# Altium integrated library ON Semi Signal Management Comparators.IntLib: 78 symbols (part 1 of 3)
Pins are listed as number, name and electrical type; pins without a type are passive.

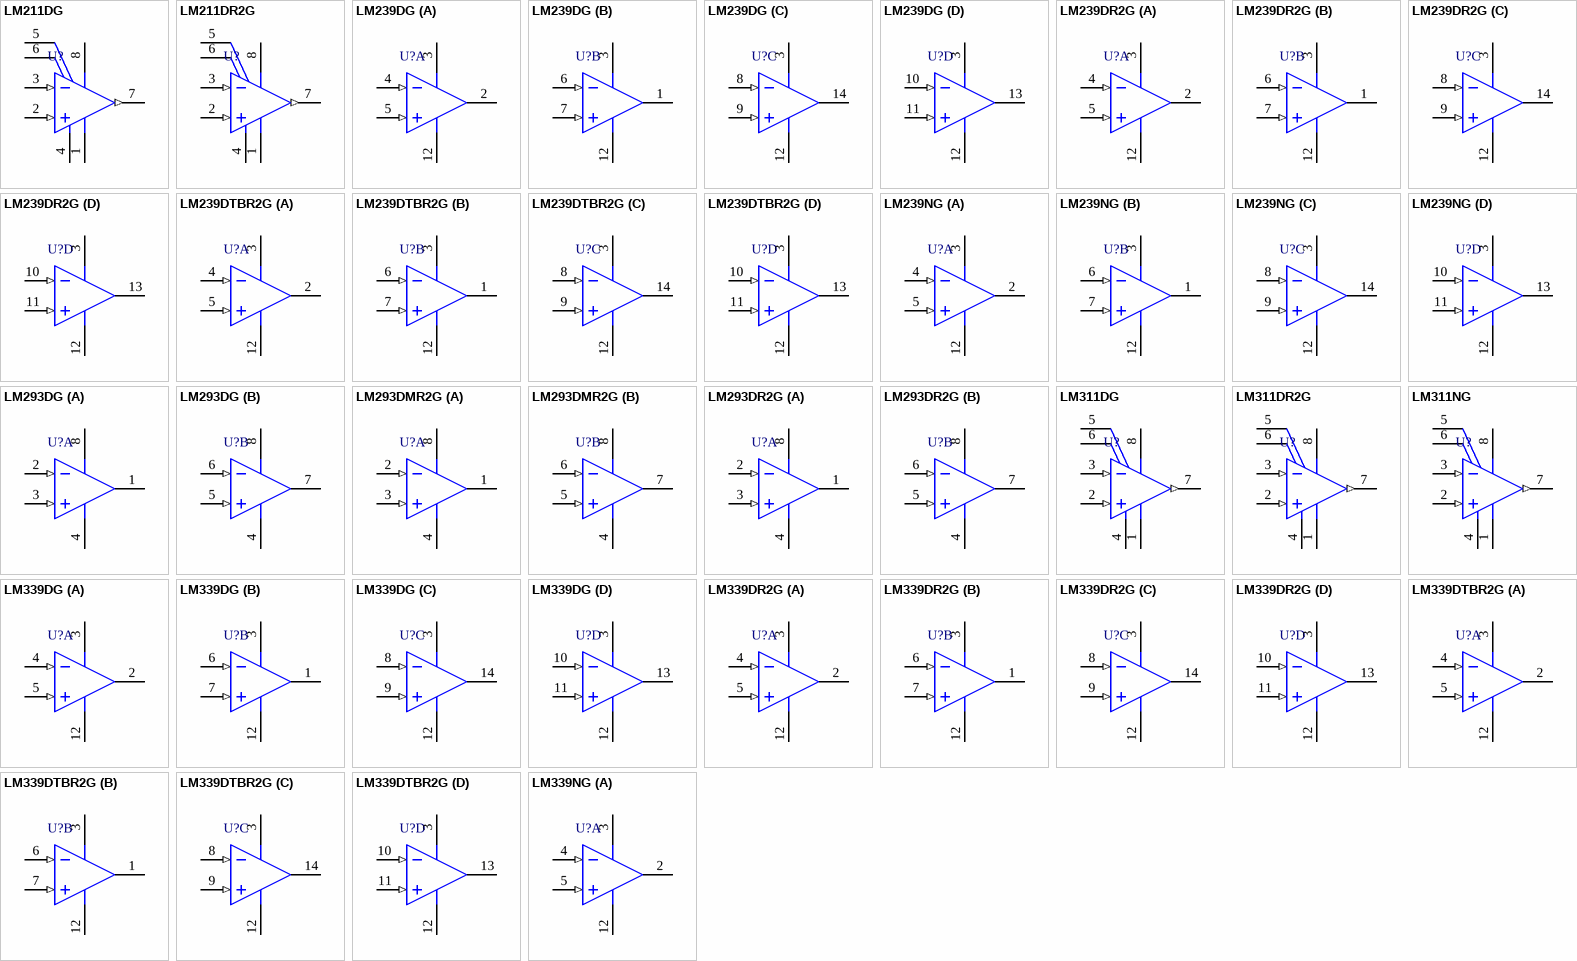
[diagram p0: symbols LM211DG to LM339NG]

## LM211DG
designator U?
Single Comparator, 5 to 30 V, -25 to 85 degC, 8-Pin SOIC, Pb-Free, Tube; Manufacturer: On Semiconductor; PartNumber: LM211DG; ICC Typ (mA): 2.4; VCC Max (V): 30; VCC Min (V): 5; DatasheetVersion: Rev. 6; PackageVersion: Rev. AK, 02/2011; PackageReference: SOIC-8-751-07; PackageDescription: 8-Pin Small Outline Integrated Circuit, Body 4.9 x 3.9 mm, Pitch 1.27 mm; Supplier 1: Digi-Key; Supplier Part Number 1: LM211DGOS-ND; Supplier 2: Farnell; Supplier Part Number 2: 1468702; Supplier 3: Newark; Supplier Part Number 3: 41K9834; Supplier 4: Mouser; Supplier Part Number 4: 863-LM211DG; Packing: Tube; RoHS: TRUE; Mounting Technology: Surface Mount; ComponentLink1Description: Manufacturer URL; ComponentLink1URL: http://www.onsemi.com/; ComponentLink2Description: Datasheet; ComponentLink2URL: http://www.onsemi.com/pub_link/Collateral/LM211-D.PDF; ComponentLink3Description: Package Specification; ComponentLink3URL: http://www.onsemi.com/pub_link/Collateral/751-07.PDF
footprint ONSC-SOIC-8-751-07_V (SOIC, 8-Leads, Body 4.9x3.9mm, Pitch 1.27mm)
pins: 1 GND (power), 2 IN+ (in), 3 IN- (in), 4 VEE (power), 5 BALANCE, 6 BALANCE/STROBE, 7 OUT (out), 8 VCC (power)

## LM211DR2G
designator U?
Single Comparator, 5 to 30 V, -25 to 85 degC, 8-Pin SOIC, Pb-Free, Tape and Reel; Manufacturer: On Semiconductor; PartNumber: LM211DR2G; ICC Typ (mA): 2.4; VCC Max (V): 30; VCC Min (V): 5; DatasheetVersion: Rev. 6; PackageVersion: Rev. AK, 02/2011; PackageReference: SOIC-8-751-07; PackageDescription: 8-Pin Small Outline Integrated Circuit, Body 4.9 x 3.9 mm, Pitch 1.27 mm; Supplier 1: Digi-Key; Supplier Part Number 1: LM211DR2GOSTR-ND; Supplier 2: Digi-Key; Supplier Part Number 2: LM211DR2GOSCT-ND; Supplier 3: Digi-Key; Supplier Part Number 3: LM211DR2GOSDKR-ND; Supplier 4: Newark; Supplier Part Number 4: 45J0709; Supplier 5: Mouser; Supplier Part Number 5: 863-LM211DR2G; Packing: Tape and Reel; RoHS: TRUE; Mounting Technology: Surface Mount; ComponentLink1Description: Manufacturer URL; ComponentLink1URL: http://www.onsemi.com/; ComponentLink2Description: Datasheet; ComponentLink2URL: http://www.onsemi.com/pub_link/Collateral/LM211-D.PDF; ComponentLink3Description: Package Specification; ComponentLink3URL: http://www.onsemi.com/pub_link/Collateral/751-07.PDF
footprint ONSC-SOIC-8-751-07_V (SOIC, 8-Leads, Body 4.9x3.9mm, Pitch 1.27mm)
pins: 1 GND (power), 2 IN+ (in), 3 IN- (in), 4 VEE (power), 5 BALANCE, 6 BALANCE/STROBE, 7 OUT (out), 8 VCC (power)

## LM239DG
designator U?
Single Supply Quad Comparators, -25 to 85 degC, 14-Pin SOIC, Pb-Free, Tube; Manufacturer: On Semiconductor; PartNumber: LM239DG; IO Typ (mA): 16; DatasheetVersion: Rev. 20; PackageVersion: Rev. K, 05/2011; PackageReference: SOIC-14-751A-03; PackageDescription: 14-Pin Small Outline Integrated Circuit, Body 8.65 x 3.9 mm, Pitch 1.27 mm; Supplier 1: Digi-Key; Supplier Part Number 1: LM239DGOS-ND; Supplier 2: Farnell; Supplier Part Number 2: 1211093; Supplier 3: Newark; Supplier Part Number 3: 45J0711; Supplier 4: Mouser; Supplier Part Number 4: 863-LM239DG; Packing: Tube; RoHS: TRUE; Mounting Technology: Surface Mount; ComponentLink1Description: Manufacturer URL; ComponentLink1URL: http://www.onsemi.com/; ComponentLink2Description: Datasheet; ComponentLink2URL: http://www.onsemi.com/pub_link/Collateral/LM339-D.PDF; ComponentLink3Description: Package Specification; ComponentLink3URL: http://www.onsemi.com/pub_link/Collateral/751A-03.PDF
footprint ONSC-SOIC-14-751A-03_V (SOIC, 14-Leads, Body 8.75x4mm, Pitch 1.27mm)
pins on every part: 3 VCC (power), 12 GND (power)
part A pins: 2 OUT1 (oc), 4 IN1- (in), 5 IN1+ (in)
part B pins: 1 OUT2 (oc), 6 IN2- (in), 7 IN2+ (in)
part C pins: 8 IN3- (in), 9 IN3+ (in), 14 OUT3 (oc)
part D pins: 10 IN4- (in), 11 IN4+ (in), 13 OUT4 (oc)

## LM239DR2G
designator U?
Single Supply Quad Comparators, -25 to 85 degC, 14-Pin SOIC, Pb-Free, Tape and Reel; Manufacturer: On Semiconductor; PartNumber: LM239DR2G; IO Typ (mA): 16; DatasheetVersion: Rev. 20; PackageVersion: Rev. K, 05/2011; PackageReference: SOIC-14-751A-03; PackageDescription: 14-Pin Small Outline Integrated Circuit, Body 8.65 x 3.9 mm, Pitch 1.27 mm; Supplier 1: Digi-Key; Supplier Part Number 1: LM239DR2GOSTR-ND; Supplier 2: Digi-Key; Supplier Part Number 2: LM239DR2GOSCT-ND; Supplier 3: Digi-Key; Supplier Part Number 3: LM239DR2GOSDKR-ND; Supplier 4: Farnell; Supplier Part Number 4: 1155778; Supplier 5: Newark; Supplier Part Number 5: 98H0553; Supplier 6: Newark; Supplier Part Number 6: 29X6005; Supplier 7: Mouser; Supplier Part Number 7: 863-LM239DR2G; Packing: Tape and Reel; RoHS: TRUE; Mounting Technology: Surface Mount; ComponentLink1Description: Manufacturer URL; ComponentLink1URL: http://www.onsemi.com/; ComponentLink2Description: Datasheet; ComponentLink2URL: http://www.onsemi.com/pub_link/Collateral/LM339-D.PDF; ComponentLink3Description: Package Specification; ComponentLink3URL: http://www.onsemi.com/pub_link/Collateral/751A-03.PDF
footprint ONSC-SOIC-14-751A-03_V (SOIC, 14-Leads, Body 8.75x4mm, Pitch 1.27mm)
pins on every part: 3 VCC (power), 12 GND (power)
part A pins: 2 OUT1 (oc), 4 IN1- (in), 5 IN1+ (in)
part B pins: 1 OUT2 (oc), 6 IN2- (in), 7 IN2+ (in)
part C pins: 8 IN3- (in), 9 IN3+ (in), 14 OUT3 (oc)
part D pins: 10 IN4- (in), 11 IN4+ (in), 13 OUT4 (oc)

## LM239DTBR2G
designator U?
Single Supply Quad Comparators, -25 to 85 degC, 14-Pin TSSOP, Pb-Free, Tape and Reel; Manufacturer: On Semiconductor; PartNumber: LM239DTBR2G; IO Typ (mA): 16; DatasheetVersion: Rev. 20; PackageVersion: Rev. B, 10/2006; PackageReference: TSSOP-14-948G-01; PackageDescription: 14-Pin Small Outline Package, Body 5 x 4.4 mm, Pitch 0.65 mm; Supplier 1: Digi-Key; Supplier Part Number 1: LM239DTBR2G-ND; Supplier 2: Newark; Supplier Part Number 2: 41K9837; Supplier 3: Mouser; Supplier Part Number 3: 863-LM239DTBR2G; Packing: Tape and Reel; RoHS: TRUE; Mounting Technology: Surface Mount; ComponentLink1Description: Manufacturer URL; ComponentLink1URL: http://www.onsemi.com/; ComponentLink2Description: Datasheet; ComponentLink2URL: http://www.onsemi.com/pub_link/Collateral/LM339-D.PDF; ComponentLink3Description: Package Specification; ComponentLink3URL: http://www.onsemi.com/pub_link/Collateral/948G-01.PDF
footprint ONSC-TSSOP-14-948G-01_V (SOP, 14-Leads, Body 5.1x4.5mm, Pitch 0.65mm)
pins on every part: 3 VCC (power), 12 GND (power)
part A pins: 2 OUT1 (oc), 4 IN1- (in), 5 IN1+ (in)
part B pins: 1 OUT2 (oc), 6 IN2- (in), 7 IN2+ (in)
part C pins: 8 IN3- (in), 9 IN3+ (in), 14 OUT3 (oc)
part D pins: 10 IN4- (in), 11 IN4+ (in), 13 OUT4 (oc)

## LM239NG
designator U?
Single Supply Quad Comparators, -25 to 85 degC, 14-Pin PDIP, Pb-Free, Tube; Manufacturer: On Semiconductor; PartNumber: LM239NG; IO Typ (mA): 16; DatasheetVersion: Rev. 20; PackageVersion: Rev. R, 06/2013; PackageReference: PDIP-14-646-06; PackageDescription: 14-Pin Plastic Dual-In Line Package, Body 19.18 x 6.605 mm, Pitch 2.54 mm; Supplier 1: Digi-Key; Supplier Part Number 1: LM239NGOS-ND; Supplier 2: Farnell; Supplier Part Number 2: 9665420; Supplier 3: Newark; Supplier Part Number 3: 45J0712; Supplier 4: Mouser; Supplier Part Number 4: 863-LM239NG; Packing: Tube; RoHS: TRUE; Mounting Technology: Through Hole; ComponentLink1Description: Manufacturer URL; ComponentLink1URL: http://www.onsemi.com/; ComponentLink2Description: Datasheet; ComponentLink2URL: http://www.onsemi.com/pub_link/Collateral/LM339-D.PDF; ComponentLink3Description: Package Specification; ComponentLink3URL: http://www.onsemi.com/pub_link/Collateral/646-06.PDF
footprint ONSC-PDIP-14-646-06 (DIP, 14-Leads, Body 19.7x7.1mm, Pitch 2.54mm)
pins on every part: 3 VCC (power), 12 GND (power)
part A pins: 2 OUT1 (oc), 4 IN1- (in), 5 IN1+ (in)
part B pins: 1 OUT2 (oc), 6 IN2- (in), 7 IN2+ (in)
part C pins: 8 IN3- (in), 9 IN3+ (in), 14 OUT3 (oc)
part D pins: 10 IN4- (in), 11 IN4+ (in), 13 OUT4 (oc)

## LM293DG
designator U?
Low Offset Voltage Dual Comparators, 2 to 36 V, -25 to 85 degC, 8-Pin SOIC, Pb-Free, Tube; Manufacturer: On Semiconductor; PartNumber: LM293DG; ICC Typ (mA): 0.4; IO Typ (mA): 16; VCC Max (V): 36; VCC Min (V): 2; DatasheetVersion: Rev. 25; PackageVersion: Rev. AK, 02/2011; PackageReference: SOIC-8-751-07; PackageDescription: 8-Pin Small Outline Integrated Circuit, Body 4.9 x 3.9 mm, Pitch 1.27 mm; Supplier 1: Digi-Key; Supplier Part Number 1: LM293DGOS-ND; Supplier 2: Farnell; Supplier Part Number 2: 2318470; Supplier 3: Newark; Supplier Part Number 3: 26K3615; Supplier 4: Mouser; Supplier Part Number 4: 863-LM293DG; Packing: Tube; RoHS: TRUE; Mounting Technology: Surface Mount; ComponentLink1Description: Manufacturer URL; ComponentLink1URL: http://www.onsemi.com/; ComponentLink2Description: Datasheet; ComponentLink2URL: http://www.onsemi.com/pub_link/Collateral/LM393-D.PDF; ComponentLink3Description: Package Specification; ComponentLink3URL: http://www.onsemi.com/pub_link/Collateral/751-07.PDF
footprint ONSC-SOIC-8-751-07_V (SOIC, 8-Leads, Body 4.9x3.9mm, Pitch 1.27mm)
pins on every part: 4 GND (power), 8 VCC (power)
part A pins: 1 OUTA (oc), 2 INA- (in), 3 INA+ (in)
part B pins: 5 INB+ (in), 6 INB- (in), 7 OUTB (oc)

## LM293DMR2G
designator U?
Low Offset Voltage Dual Comparators, 2 to 36 V, -25 to 85 degC, 8-Pin MICRO, Pb-Free, Tape and Reel; Manufacturer: On Semiconductor; PartNumber: LM293DMR2G; ICC Typ (mA): 0.4; IO Typ (mA): 16; VCC Max (V): 36; VCC Min (V): 2; DatasheetVersion: Rev. 25; PackageVersion: Rev. H; PackageReference: MICRO-8-846A-02_H; PackageDescription: 8-Pin Small Outline Package, Body 3 x 3 mm, Pitch 0.65 mm; Supplier 1: Digi-Key; Supplier Part Number 1: LM293DMR2GOSTR-ND; Supplier 2: Digi-Key; Supplier Part Number 2: LM293DMR2GOSCT-ND; Supplier 3: Digi-Key; Supplier Part Number 3: LM293DMR2GOSDKR-ND; Supplier 4: Mouser; Supplier Part Number 4: 863-LM293DMR2G; Packing: Tape and Reel; RoHS: TRUE; Mounting Technology: Surface Mount; ComponentLink1Description: Manufacturer URL; ComponentLink1URL: http://www.onsemi.com/; ComponentLink2Description: Datasheet; ComponentLink2URL: http://www.onsemi.com/pub_link/Collateral/LM393-D.PDF; ComponentLink3Description: Package Specification; ComponentLink3URL: http://www.onsemi.com/pub_link/Collateral/NLSV2T244-D.PDF
footprint ONSC-MICRO-8-846A-02_H_V (SOIC, 8-Leads, Body 3.1x3.1mm, Pitch 0.65mm)
pins on every part: 4 GND (power), 8 VCC (power)
part A pins: 1 OUTA (oc), 2 INA- (in), 3 INA+ (in)
part B pins: 5 INB+ (in), 6 INB- (in), 7 OUTB (oc)

## LM293DR2G
designator U?
Low Offset Voltage Dual Comparators, 2 to 36 V, -25 to 85 degC, 8-Pin SOIC, Pb-Free, Tape and Reel; Manufacturer: On Semiconductor; PartNumber: LM293DR2G; ICC Typ (mA): 0.4; IO Typ (mA): 16; VCC Max (V): 36; VCC Min (V): 2; DatasheetVersion: Rev. 25; PackageVersion: Rev. AK, 02/2011; PackageReference: SOIC-8-751-07; PackageDescription: 8-Pin Small Outline Integrated Circuit, Body 4.9 x 3.9 mm, Pitch 1.27 mm; Supplier 1: Digi-Key; Supplier Part Number 1: LM293DR2GOSTR-ND; Supplier 2: Digi-Key; Supplier Part Number 2: LM293DR2GOSCT-ND; Supplier 3: Digi-Key; Supplier Part Number 3: LM293DR2GOSDKR-ND; Supplier 4: Farnell; Supplier Part Number 4: 1278480; Supplier 5: Newark; Supplier Part Number 5: 84K8730; Supplier 6: Mouser; Supplier Part Number 6: 863-LM293DR2G; Packing: Tape and Reel; RoHS: TRUE; Mounting Technology: Surface Mount; ComponentLink1Description: Manufacturer URL; ComponentLink1URL: http://www.onsemi.com/; ComponentLink2Description: Datasheet; ComponentLink2URL: http://www.onsemi.com/pub_link/Collateral/LM393-D.PDF; ComponentLink3Description: Package Specification; ComponentLink3URL: http://www.onsemi.com/pub_link/Collateral/751-07.PDF
footprint ONSC-SOIC-8-751-07_V (SOIC, 8-Leads, Body 4.9x3.9mm, Pitch 1.27mm)
pins on every part: 4 GND (power), 8 VCC (power)
part A pins: 1 OUTA (oc), 2 INA- (in), 3 INA+ (in)
part B pins: 5 INB+ (in), 6 INB- (in), 7 OUTB (oc)

## LM311DG
designator U?
Single Comparator, 5 to 30 V, 0 to 70 degC, 8-Pin SOIC, Pb-Free, Tube; Manufacturer: On Semiconductor; PartNumber: LM311DG; ICC Typ (mA): 2.4; VCC Max (V): 30; VCC Min (V): 5; DatasheetVersion: Rev. 6; PackageVersion: Rev. AK, 02/2011; PackageReference: SOIC-8-751-07; PackageDescription: 8-Pin Small Outline Integrated Circuit, Body 4.9 x 3.9 mm, Pitch 1.27 mm; Supplier 1: Digi-Key; Supplier Part Number 1: LM311DGOS-ND; Supplier 2: Newark; Supplier Part Number 2: 98H0570; Supplier 3: Mouser; Supplier Part Number 3: 863-LM311DG; Packing: Tube; RoHS: TRUE; Mounting Technology: Surface Mount; ComponentLink1Description: Manufacturer URL; ComponentLink1URL: http://www.onsemi.com/; ComponentLink2Description: Datasheet; ComponentLink2URL: http://www.onsemi.com/pub_link/Collateral/LM211-D.PDF; ComponentLink3Description: Package Specification; ComponentLink3URL: http://www.onsemi.com/pub_link/Collateral/751-07.PDF
footprint ONSC-SOIC-8-751-07_V (SOIC, 8-Leads, Body 4.9x3.9mm, Pitch 1.27mm)
pins: 1 GND (power), 2 IN+ (in), 3 IN- (in), 4 VEE (power), 5 BALANCE, 6 BALANCE/STROBE, 7 OUT (out), 8 VCC (power)

## LM311DR2G
designator U?
Single Comparator, 5 to 30 V, 0 to 70 degC, 8-Pin SOIC, Pb-Free, Tape and Reel; Manufacturer: On Semiconductor; PartNumber: LM311DR2G; ICC Typ (mA): 2.4; VCC Max (V): 30; VCC Min (V): 5; DatasheetVersion: Rev. 6; PackageVersion: Rev. AK, 02/2011; PackageReference: SOIC-8-751-07; PackageDescription: 8-Pin Small Outline Integrated Circuit, Body 4.9 x 3.9 mm, Pitch 1.27 mm; Supplier 1: Digi-Key; Supplier Part Number 1: LM311DR2GOSTR-ND; Supplier 2: Digi-Key; Supplier Part Number 2: LM311DR2GOSCT-ND; Supplier 3: Digi-Key; Supplier Part Number 3: LM311DR2GOSDKR-ND; Supplier 4: Newark; Supplier Part Number 4: 45J0733; Supplier 5: Mouser; Supplier Part Number 5: 863-LM311DR2G; Packing: Tape and Reel; RoHS: TRUE; Mounting Technology: Surface Mount; ComponentLink1Description: Manufacturer URL; ComponentLink1URL: http://www.onsemi.com/; ComponentLink2Description: Datasheet; ComponentLink2URL: http://www.onsemi.com/pub_link/Collateral/LM211-D.PDF; ComponentLink3Description: Package Specification; ComponentLink3URL: http://www.onsemi.com/pub_link/Collateral/751-07.PDF
footprint ONSC-SOIC-8-751-07_V (SOIC, 8-Leads, Body 4.9x3.9mm, Pitch 1.27mm)
pins: 1 GND (power), 2 IN+ (in), 3 IN- (in), 4 VEE (power), 5 BALANCE, 6 BALANCE/STROBE, 7 OUT (out), 8 VCC (power)

## LM311NG
designator U?
Single Comparator, 5 to 30 V, 0 to 70 degC, 8-Pin PDIP, Pb-Free, Tube; Manufacturer: On Semiconductor; PartNumber: LM311NG; ICC Typ (mA): 2.4; VCC Max (V): 30; VCC Min (V): 5; DatasheetVersion: Rev. 6; PackageVersion: Rev. M, 04/2010; PackageReference: PDIP-8-626-05; PackageDescription: 8-Pin Plastic Dual-In Line Package, Body 9.52 x 6.605 mm, Pitch 2.54 mm; Supplier 1: Digi-Key; Supplier Part Number 1: LM311NGOS-ND; Supplier 2: Farnell; Supplier Part Number 2: 1214465; Supplier 3: Newark; Supplier Part Number 3: 45J0734; Supplier 4: Mouser; Supplier Part Number 4: 863-LM311NG; Packing: Tube; RoHS: TRUE; Mounting Technology: Through Hole; ComponentLink1Description: Manufacturer URL; ComponentLink1URL: http://www.onsemi.com/; ComponentLink2Description: Datasheet; ComponentLink2URL: http://www.onsemi.com/pub_link/Collateral/LM211-D.PDF; ComponentLink3Description: Package Specification; ComponentLink3URL: http://www.onsemi.com/pub_link/Collateral/LM211-D.PDF
footprint ONSC-PDIP-8-626-05_M (DIP, 8-Leads, Body 10x7.1mm, Pitch 2.54mm)
pins: 1 GND (power), 2 IN+ (in), 3 IN- (in), 4 VEE (power), 5 BALANCE, 6 BALANCE/STROBE, 7 OUT (out), 8 VCC (power)

## LM339DG
designator U?
Single Supply Quad Comparators, 0 to 70 degC, 14-Pin SOIC, Pb-Free, Tube; Manufacturer: On Semiconductor; PartNumber: LM339DG; IO Typ (mA): 16; DatasheetVersion: Rev. 20; PackageVersion: Rev. K, 05/2011; PackageReference: SOIC-14-751A-03; PackageDescription: 14-Pin Small Outline Integrated Circuit, Body 8.65 x 3.9 mm, Pitch 1.27 mm; Supplier 1: Digi-Key; Supplier Part Number 1: LM339DGOS-ND; Supplier 2: Farnell; Supplier Part Number 2: 1211105; Supplier 3: Newark; Supplier Part Number 3: 98H0575; Supplier 4: Mouser; Supplier Part Number 4: 863-LM339DG; Packing: Tube; RoHS: TRUE; Mounting Technology: Surface Mount; ComponentLink1Description: Manufacturer URL; ComponentLink1URL: http://www.onsemi.com/; ComponentLink2Description: Datasheet; ComponentLink2URL: http://www.onsemi.com/pub_link/Collateral/LM339-D.PDF; ComponentLink3Description: Package Specification; ComponentLink3URL: http://www.onsemi.com/pub_link/Collateral/751A-03.PDF
footprint ONSC-SOIC-14-751A-03_V (SOIC, 14-Leads, Body 8.75x4mm, Pitch 1.27mm)
pins on every part: 3 VCC (power), 12 GND (power)
part A pins: 2 OUT1 (oc), 4 IN1- (in), 5 IN1+ (in)
part B pins: 1 OUT2 (oc), 6 IN2- (in), 7 IN2+ (in)
part C pins: 8 IN3- (in), 9 IN3+ (in), 14 OUT3 (oc)
part D pins: 10 IN4- (in), 11 IN4+ (in), 13 OUT4 (oc)

## LM339DR2G
designator U?
Single Supply Quad Comparators, 0 to 70 degC, 14-Pin SOIC, Pb-Free, Tape and Reel; Manufacturer: On Semiconductor; PartNumber: LM339DR2G; IO Typ (mA): 16; DatasheetVersion: Rev. 20; PackageVersion: Rev. K, 05/2011; PackageReference: SOIC-14-751A-03; PackageDescription: 14-Pin Small Outline Integrated Circuit, Body 8.65 x 3.9 mm, Pitch 1.27 mm; Supplier 1: Digi-Key; Supplier Part Number 1: LM339DR2GOSTR-ND; Supplier 2: Digi-Key; Supplier Part Number 2: LM339DR2GOSCT-ND; Supplier 3: Digi-Key; Supplier Part Number 3: LM339DR2GOSDKR-ND; Supplier 4: Farnell; Supplier Part Number 4: 1651910; Supplier 5: Farnell; Supplier Part Number 5: 1651910RL; Supplier 6: Newark; Supplier Part Number 6: 17H1559; Supplier 7: Newark; Supplier Part Number 7: 29X6010; Supplier 8: Mouser; Supplier Part Number 8: 863-LM339DR2G; Packing: Tape and Reel; RoHS: TRUE; Mounting Technology: Surface Mount; ComponentLink1Description: Manufacturer URL; ComponentLink1URL: http://www.onsemi.com/; ComponentLink2Description: Datasheet; ComponentLink2URL: http://www.onsemi.com/pub_link/Collateral/LM339-D.PDF; ComponentLink3Description: Package Specification; ComponentLink3URL: http://www.onsemi.com/pub_link/Collateral/751A-03.PDF
footprint ONSC-SOIC-14-751A-03_V (SOIC, 14-Leads, Body 8.75x4mm, Pitch 1.27mm)
pins on every part: 3 VCC (power), 12 GND (power)
part A pins: 2 OUT1 (oc), 4 IN1- (in), 5 IN1+ (in)
part B pins: 1 OUT2 (oc), 6 IN2- (in), 7 IN2+ (in)
part C pins: 8 IN3- (in), 9 IN3+ (in), 14 OUT3 (oc)
part D pins: 10 IN4- (in), 11 IN4+ (in), 13 OUT4 (oc)

## LM339DTBR2G
designator U?
Single Supply Quad Comparators, 0 to 70 degC, 14-Pin TSSOP, Pb-Free, Tape and Reel; Manufacturer: On Semiconductor; PartNumber: LM339DTBR2G; IO Typ (mA): 16; DatasheetVersion: Rev. 20; PackageVersion: Rev. B, 10/2006; PackageReference: TSSOP-14-948G-01; PackageDescription: 14-Pin Small Outline Package, Body 5 x 4.4 mm, Pitch 0.65 mm; Supplier 1: Digi-Key; Supplier Part Number 1: LM339DTBR2GOSTR-ND; Supplier 2: Digi-Key; Supplier Part Number 2: LM339DTBR2GOSCT-ND; Supplier 3: Digi-Key; Supplier Part Number 3: LM339DTBR2GOSDKR-ND; Supplier 4: Newark; Supplier Part Number 4: 41K9887; Supplier 5: Newark; Supplier Part Number 5: 04R7817; Supplier 6: Mouser; Supplier Part Number 6: 863-LM339DTBR2G; Packing: Tape and Reel; RoHS: TRUE; Mounting Technology: Surface Mount; ComponentLink1Description: Manufacturer URL; ComponentLink1URL: http://www.onsemi.com/; ComponentLink2Description: Datasheet; ComponentLink2URL: http://www.onsemi.com/pub_link/Collateral/LM339-D.PDF; ComponentLink3Description: Package Specification; ComponentLink3URL: http://www.onsemi.com/pub_link/Collateral/948G-01.PDF
footprint ONSC-TSSOP-14-948G-01_V (SOP, 14-Leads, Body 5.1x4.5mm, Pitch 0.65mm)
pins on every part: 3 VCC (power), 12 GND (power)
part A pins: 2 OUT1 (oc), 4 IN1- (in), 5 IN1+ (in)
part B pins: 1 OUT2 (oc), 6 IN2- (in), 7 IN2+ (in)
part C pins: 8 IN3- (in), 9 IN3+ (in), 14 OUT3 (oc)
part D pins: 10 IN4- (in), 11 IN4+ (in), 13 OUT4 (oc)

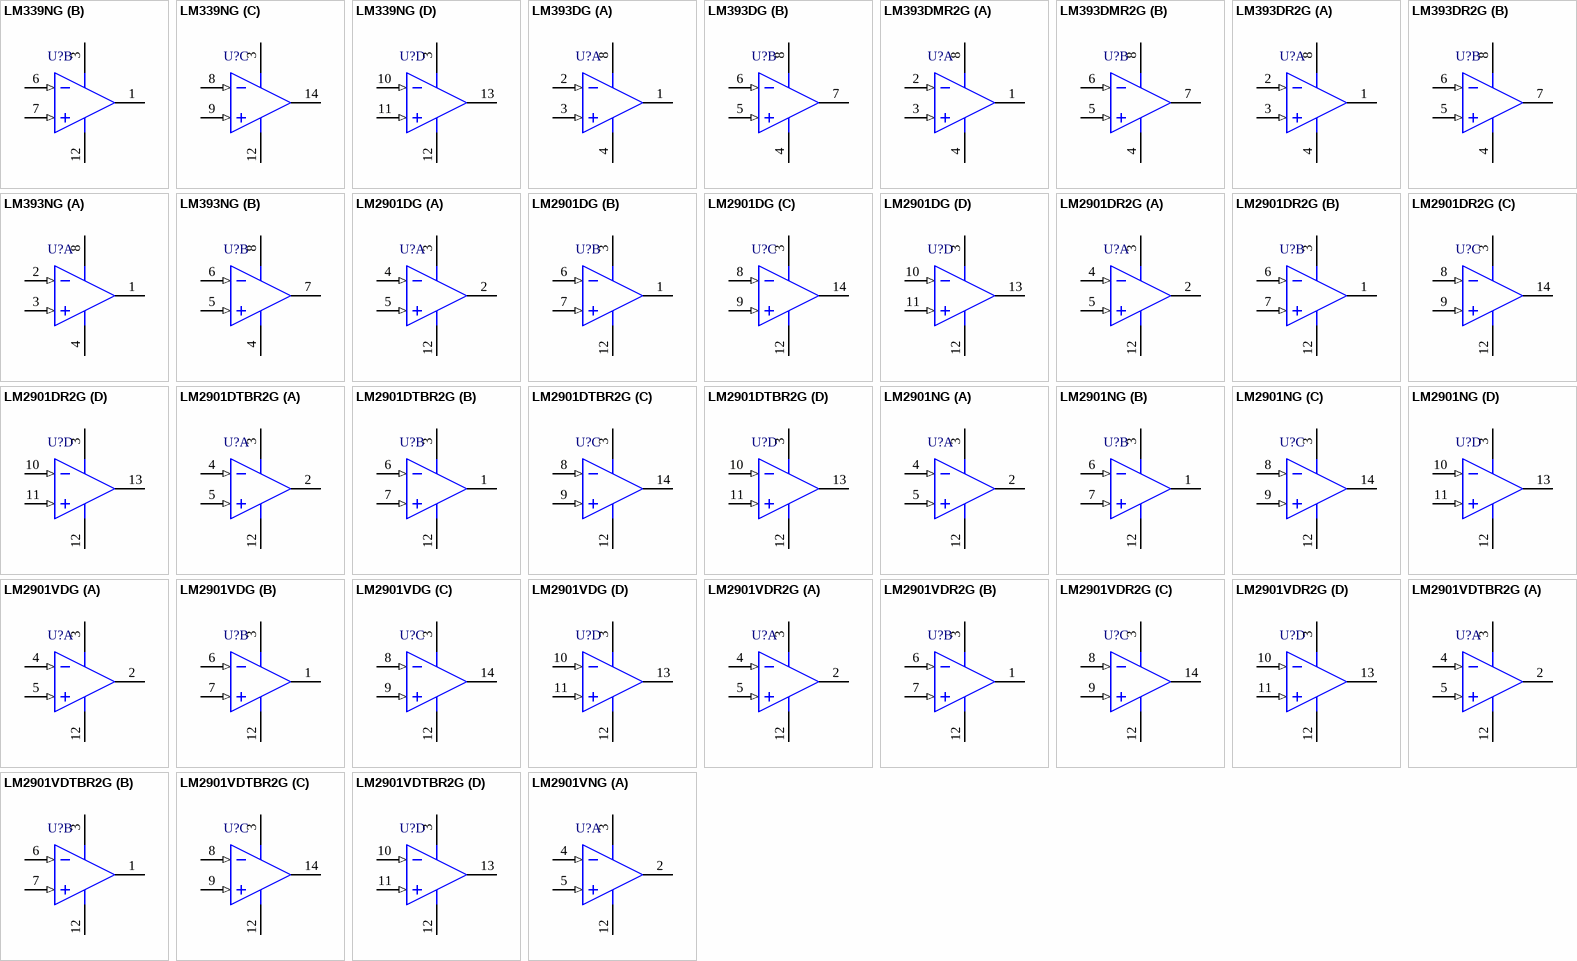
[diagram p1: symbols LM339NG to LM2901VNG]

## LM339NG
designator U?
Single Supply Quad Comparators, 0 to 70 degC, 14-Pin PDIP, Pb-Free, Tube; Manufacturer: On Semiconductor; PartNumber: LM339NG; IO Typ (mA): 16; DatasheetVersion: Rev. 20; PackageVersion: Rev. R, 06/2013; PackageReference: PDIP-14-646-06; PackageDescription: 14-Pin Plastic Dual-In Line Package, Body 19.18 x 6.605 mm, Pitch 2.54 mm; Supplier 1: Digi-Key; Supplier Part Number 1: LM339NGOS-ND; Supplier 2: Farnell; Supplier Part Number 2: 9664491; Supplier 3: Newark; Supplier Part Number 3: 98H0576; Supplier 4: Mouser; Supplier Part Number 4: 863-LM339NG; Packing: Tube; RoHS: TRUE; Mounting Technology: Through Hole; ComponentLink1Description: Manufacturer URL; ComponentLink1URL: http://www.onsemi.com/; ComponentLink2Description: Datasheet; ComponentLink2URL: http://www.onsemi.com/pub_link/Collateral/LM339-D.PDF; ComponentLink3Description: Package Specification; ComponentLink3URL: http://www.onsemi.com/pub_link/Collateral/646-06.PDF
footprint ONSC-PDIP-14-646-06 (DIP, 14-Leads, Body 19.7x7.1mm, Pitch 2.54mm)
pins on every part: 3 VCC (power), 12 GND (power)
part A pins: 2 OUT1 (oc), 4 IN1- (in), 5 IN1+ (in)
part B pins: 1 OUT2 (oc), 6 IN2- (in), 7 IN2+ (in)
part C pins: 8 IN3- (in), 9 IN3+ (in), 14 OUT3 (oc)
part D pins: 10 IN4- (in), 11 IN4+ (in), 13 OUT4 (oc)

## LM393DG
designator U?
Low Offset Voltage Dual Comparators, 2 to 36 V, 0 to 70 degC, 8-Pin SOIC, Pb-Free, Tube; Manufacturer: On Semiconductor; PartNumber: LM393DG; ICC Typ (mA): 0.4; IO Typ (mA): 16; VCC Max (V): 36; VCC Min (V): 2; DatasheetVersion: Rev. 25; PackageVersion: Rev. AK, 02/2011; PackageReference: SOIC-8-751-07; PackageDescription: 8-Pin Small Outline Integrated Circuit, Body 4.9 x 3.9 mm, Pitch 1.27 mm; Supplier 1: Digi-Key; Supplier Part Number 1: LM393DGOS-ND; Supplier 2: Farnell; Supplier Part Number 2: 1343575; Supplier 3: Newark; Supplier Part Number 3: 88H4661; Supplier 4: Mouser; Supplier Part Number 4: 863-LM393DG; Packing: Tube; RoHS: TRUE; Mounting Technology: Surface Mount; ComponentLink1Description: Manufacturer URL; ComponentLink1URL: http://www.onsemi.com/; ComponentLink2Description: Datasheet; ComponentLink2URL: http://www.onsemi.com/pub_link/Collateral/LM393-D.PDF; ComponentLink3Description: Package Specification; ComponentLink3URL: http://www.onsemi.com/pub_link/Collateral/751-07.PDF
footprint ONSC-SOIC-8-751-07_V (SOIC, 8-Leads, Body 4.9x3.9mm, Pitch 1.27mm)
pins on every part: 4 GND (power), 8 VCC (power)
part A pins: 1 OUTA (oc), 2 INA- (in), 3 INA+ (in)
part B pins: 5 INB+ (in), 6 INB- (in), 7 OUTB (oc)

## LM393DMR2G
designator U?
Low Offset Voltage Dual Comparators, 2 to 36 V, 0 to 70 degC, 8-Pin MICRO, Pb-Free, Tape and Reel; Manufacturer: On Semiconductor; PartNumber: LM393DMR2G; ICC Typ (mA): 0.4; IO Typ (mA): 16; VCC Max (V): 36; VCC Min (V): 2; DatasheetVersion: Rev. 25; PackageVersion: Rev. H; PackageReference: MICRO-8-846A-02_H; PackageDescription: 8-Pin Small Outline Package, Body 3 x 3 mm, Pitch 0.65 mm; Supplier 1: Digi-Key; Supplier Part Number 1: LM393DMR2GOSTR-ND; Supplier 2: Digi-Key; Supplier Part Number 2: LM393DMR2GOSCT-ND; Supplier 3: Digi-Key; Supplier Part Number 3: LM393DMR2GOSDKR-ND; Supplier 4: Newark; Supplier Part Number 4: 04R7819; Supplier 5: Mouser; Supplier Part Number 5: 863-LM393DMR2G; Packing: Tape and Reel; RoHS: TRUE; Mounting Technology: Surface Mount; ComponentLink1Description: Manufacturer URL; ComponentLink1URL: http://www.onsemi.com/; ComponentLink2Description: Datasheet; ComponentLink2URL: http://www.onsemi.com/pub_link/Collateral/LM393-D.PDF; ComponentLink3Description: Package Specification; ComponentLink3URL: http://www.onsemi.com/pub_link/Collateral/NLSV2T244-D.PDF
footprint ONSC-MICRO-8-846A-02_H_V (SOIC, 8-Leads, Body 3.1x3.1mm, Pitch 0.65mm)
pins on every part: 4 GND (power), 8 VCC (power)
part A pins: 1 OUTA (oc), 2 INA- (in), 3 INA+ (in)
part B pins: 5 INB+ (in), 6 INB- (in), 7 OUTB (oc)

## LM393DR2G
designator U?
Low Offset Voltage Dual Comparators, 2 to 36 V, 0 to 70 degC, 8-Pin SOIC, Pb-Free, Tape and Reel; Manufacturer: On Semiconductor; PartNumber: LM393DR2G; ICC Typ (mA): 0.4; IO Typ (mA): 16; VCC Max (V): 36; VCC Min (V): 2; DatasheetVersion: Rev. 25; PackageVersion: Rev. AK, 02/2011; PackageReference: SOIC-8-751-07; PackageDescription: 8-Pin Small Outline Integrated Circuit, Body 4.9 x 3.9 mm, Pitch 1.27 mm; Supplier 1: Digi-Key; Supplier Part Number 1: LM393DR2GOSTR-ND; Supplier 2: Digi-Key; Supplier Part Number 2: LM393DR2GOSCT-ND; Supplier 3: Digi-Key; Supplier Part Number 3: LM393DR2GOSDKR-ND; Supplier 4: Farnell; Supplier Part Number 4: 1258876; Supplier 5: Newark; Supplier Part Number 5: 88H4662; Supplier 6: Newark; Supplier Part Number 6: 29X6012; Supplier 7: Mouser; Supplier Part Number 7: 863-LM393DR2G; Packing: Tape and Reel; RoHS: TRUE; Mounting Technology: Surface Mount; ComponentLink1Description: Manufacturer URL; ComponentLink1URL: http://www.onsemi.com/; ComponentLink2Description: Datasheet; ComponentLink2URL: http://www.onsemi.com/pub_link/Collateral/LM393-D.PDF; ComponentLink3Description: Package Specification; ComponentLink3URL: http://www.onsemi.com/pub_link/Collateral/751-07.PDF
footprint ONSC-SOIC-8-751-07_V (SOIC, 8-Leads, Body 4.9x3.9mm, Pitch 1.27mm)
pins on every part: 4 GND (power), 8 VCC (power)
part A pins: 1 OUTA (oc), 2 INA- (in), 3 INA+ (in)
part B pins: 5 INB+ (in), 6 INB- (in), 7 OUTB (oc)

## LM393NG
designator U?
Low Offset Voltage Dual Comparators, 2 to 36 V, 0 to 70 degC, 8-Pin PDIP, Pb-Free, Tube; Manufacturer: On Semiconductor; PartNumber: LM393NG; ICC Typ (mA): 0.4; IO Typ (mA): 16; VCC Max (V): 36; VCC Min (V): 2; DatasheetVersion: Rev. 25; PackageVersion: Rev. M, 04/2010; PackageReference: PDIP-8-626-05; PackageDescription: 8-Pin Plastic Dual-In Line Package, Body 9.52 x 6.605 mm, Pitch 2.54 mm; Supplier 1: Digi-Key; Supplier Part Number 1: LM393NGOS-ND; Supplier 2: Farnell; Supplier Part Number 2: 1211133; Supplier 3: Newark; Supplier Part Number 3: 67H6685; Supplier 4: Mouser; Supplier Part Number 4: 863-LM393NG; Packing: Tube; RoHS: TRUE; Mounting Technology: Through Hole; ComponentLink1Description: Manufacturer URL; ComponentLink1URL: http://www.onsemi.com/; ComponentLink2Description: Datasheet; ComponentLink2URL: http://www.onsemi.com/pub_link/Collateral/LM393-D.PDF; ComponentLink3Description: Package Specification; ComponentLink3URL: http://www.onsemi.com/pub_link/Collateral/LM211-D.PDF
footprint ONSC-PDIP-8-626-05_M (DIP, 8-Leads, Body 10x7.1mm, Pitch 2.54mm)
pins on every part: 4 GND (power), 8 VCC (power)
part A pins: 1 OUTA (oc), 2 INA- (in), 3 INA+ (in)
part B pins: 5 INB+ (in), 6 INB- (in), 7 OUTB (oc)

## LM2901DG
designator U?
Single Supply Quad Comparators, -40 to 105 degC, 14-Pin SOIC, Pb-Free, Tube; Manufacturer: On Semiconductor; PartNumber: LM2901DG; IO Typ (mA): 16; DatasheetVersion: Rev. 20; PackageVersion: Rev. K, 05/2011; PackageReference: SOIC-14-751A-03; PackageDescription: 14-Pin Small Outline Integrated Circuit, Body 8.65 x 3.9 mm, Pitch 1.27 mm; Supplier 1: Digi-Key; Supplier Part Number 1: LM2901DGOS-ND; Supplier 2: Farnell; Supplier Part Number 2: 1211095; Supplier 3: Newark; Supplier Part Number 3: 26K3610; Supplier 4: Mouser; Supplier Part Number 4: 863-LM2901DG; Packing: Tube; RoHS: TRUE; Mounting Technology: Surface Mount; ComponentLink1Description: Manufacturer URL; ComponentLink1URL: http://www.onsemi.com/; ComponentLink2Description: Datasheet; ComponentLink2URL: http://www.onsemi.com/pub_link/Collateral/LM339-D.PDF; ComponentLink3Description: Package Specification; ComponentLink3URL: http://www.onsemi.com/pub_link/Collateral/751A-03.PDF
footprint ONSC-SOIC-14-751A-03_V (SOIC, 14-Leads, Body 8.75x4mm, Pitch 1.27mm)
pins on every part: 3 VCC (power), 12 GND (power)
part A pins: 2 OUT1 (oc), 4 IN1- (in), 5 IN1+ (in)
part B pins: 1 OUT2 (oc), 6 IN2- (in), 7 IN2+ (in)
part C pins: 8 IN3- (in), 9 IN3+ (in), 14 OUT3 (oc)
part D pins: 10 IN4- (in), 11 IN4+ (in), 13 OUT4 (oc)

## LM2901DR2G
designator U?
Single Supply Quad Comparators, -40 to 105 degC, 14-Pin SOIC, Pb-Free, Tape and Reel; Manufacturer: On Semiconductor; PartNumber: LM2901DR2G; IO Typ (mA): 16; DatasheetVersion: Rev. 20; PackageVersion: Rev. K, 05/2011; PackageReference: SOIC-14-751A-03; PackageDescription: 14-Pin Small Outline Integrated Circuit, Body 8.65 x 3.9 mm, Pitch 1.27 mm; Supplier 1: Digi-Key; Supplier Part Number 1: LM2901DR2GOSTR-ND; Supplier 2: Digi-Key; Supplier Part Number 2: LM2901DR2GOSCT-ND; Supplier 3: Digi-Key; Supplier Part Number 3: LM2901DR2GOSDKR-ND; Supplier 4: Newark; Supplier Part Number 4: 84K8726; Supplier 5: Mouser; Supplier Part Number 5: 863-LM2901DR2G; Packing: Tape and Reel; RoHS: TRUE; Mounting Technology: Surface Mount; ComponentLink1Description: Manufacturer URL; ComponentLink1URL: http://www.onsemi.com/; ComponentLink2Description: Datasheet; ComponentLink2URL: http://www.onsemi.com/pub_link/Collateral/LM339-D.PDF; ComponentLink3Description: Package Specification; ComponentLink3URL: http://www.onsemi.com/pub_link/Collateral/751A-03.PDF
footprint ONSC-SOIC-14-751A-03_V (SOIC, 14-Leads, Body 8.75x4mm, Pitch 1.27mm)
pins on every part: 3 VCC (power), 12 GND (power)
part A pins: 2 OUT1 (oc), 4 IN1- (in), 5 IN1+ (in)
part B pins: 1 OUT2 (oc), 6 IN2- (in), 7 IN2+ (in)
part C pins: 8 IN3- (in), 9 IN3+ (in), 14 OUT3 (oc)
part D pins: 10 IN4- (in), 11 IN4+ (in), 13 OUT4 (oc)

## LM2901DTBR2G
designator U?
Single Supply Quad Comparators, -40 to 105 degC, 14-Pin TSSOP, Pb-Free, Tape and Reel; Manufacturer: On Semiconductor; PartNumber: LM2901DTBR2G; IO Typ (mA): 16; DatasheetVersion: Rev. 20; PackageVersion: Rev. B, 10/2006; PackageReference: TSSOP-14-948G-01; PackageDescription: 14-Pin Small Outline Package, Body 5 x 4.4 mm, Pitch 0.65 mm; Supplier 1: Digi-Key; Supplier Part Number 1: LM2901DTBR2GOSTR-ND; Supplier 2: Digi-Key; Supplier Part Number 2: LM2901DTBR2GOSCT-ND; Supplier 3: Digi-Key; Supplier Part Number 3: LM2901DTBR2GOSDKR-ND; Supplier 4: Newark; Supplier Part Number 4: 04R7812; Supplier 5: Mouser; Supplier Part Number 5: 863-LM2901DTBR2G; Packing: Tape and Reel; RoHS: TRUE; Mounting Technology: Surface Mount; ComponentLink1Description: Manufacturer URL; ComponentLink1URL: http://www.onsemi.com/; ComponentLink2Description: Datasheet; ComponentLink2URL: http://www.onsemi.com/pub_link/Collateral/LM339-D.PDF; ComponentLink3Description: Package Specification; ComponentLink3URL: http://www.onsemi.com/pub_link/Collateral/948G-01.PDF
footprint ONSC-TSSOP-14-948G-01_V (SOP, 14-Leads, Body 5.1x4.5mm, Pitch 0.65mm)
pins on every part: 3 VCC (power), 12 GND (power)
part A pins: 2 OUT1 (oc), 4 IN1- (in), 5 IN1+ (in)
part B pins: 1 OUT2 (oc), 6 IN2- (in), 7 IN2+ (in)
part C pins: 8 IN3- (in), 9 IN3+ (in), 14 OUT3 (oc)
part D pins: 10 IN4- (in), 11 IN4+ (in), 13 OUT4 (oc)

## LM2901NG
designator U?
Single Supply Quad Comparators, -40 to 105 degC, 14-Pin PDIP, Pb-Free, Tube; Manufacturer: On Semiconductor; PartNumber: LM2901NG; IO Typ (mA): 16; DatasheetVersion: Rev. 20; PackageVersion: Rev. R, 06/2013; PackageReference: PDIP-14-646-06; PackageDescription: 14-Pin Plastic Dual-In Line Package, Body 19.18 x 6.605 mm, Pitch 2.54 mm; Supplier 1: Digi-Key; Supplier Part Number 1: LM2901NGOS-ND; Supplier 2: Farnell; Supplier Part Number 2: 1126406; Supplier 3: Newark; Supplier Part Number 3: 45J0721; Supplier 4: Mouser; Supplier Part Number 4: 863-LM2901NG; Packing: Tube; RoHS: TRUE; Mounting Technology: Through Hole; ComponentLink1Description: Manufacturer URL; ComponentLink1URL: http://www.onsemi.com/; ComponentLink2Description: Datasheet; ComponentLink2URL: http://www.onsemi.com/pub_link/Collateral/LM339-D.PDF; ComponentLink3Description: Package Specification; ComponentLink3URL: http://www.onsemi.com/pub_link/Collateral/646-06.PDF
footprint ONSC-PDIP-14-646-06 (DIP, 14-Leads, Body 19.7x7.1mm, Pitch 2.54mm)
pins on every part: 3 VCC (power), 12 GND (power)
part A pins: 2 OUT1 (oc), 4 IN1- (in), 5 IN1+ (in)
part B pins: 1 OUT2 (oc), 6 IN2- (in), 7 IN2+ (in)
part C pins: 8 IN3- (in), 9 IN3+ (in), 14 OUT3 (oc)
part D pins: 10 IN4- (in), 11 IN4+ (in), 13 OUT4 (oc)

## LM2901VDG
designator U?
Single Supply Quad Comparators, -40 to 125 degC, 14-Pin SOIC, Pb-Free, Tube; Manufacturer: On Semiconductor; PartNumber: LM2901VDG; IO Typ (mA): 16; DatasheetVersion: Rev. 20; PackageVersion: Rev. K, 05/2011; PackageReference: SOIC-14-751A-03; PackageDescription: 14-Pin Small Outline Integrated Circuit, Body 8.65 x 3.9 mm, Pitch 1.27 mm; Supplier 1: Digi-Key; Supplier Part Number 1: LM2901VDG-ND; Supplier 2: Newark; Supplier Part Number 2: 98H0561; Supplier 3: Mouser; Supplier Part Number 3: 863-LM2901VDG; Packing: Tube; RoHS: TRUE; Mounting Technology: Surface Mount; ComponentLink1Description: Manufacturer URL; ComponentLink1URL: http://www.onsemi.com/; ComponentLink2Description: Datasheet; ComponentLink2URL: http://www.onsemi.com/pub_link/Collateral/LM339-D.PDF; ComponentLink3Description: Package Specification; ComponentLink3URL: http://www.onsemi.com/pub_link/Collateral/751A-03.PDF
footprint ONSC-SOIC-14-751A-03_V (SOIC, 14-Leads, Body 8.75x4mm, Pitch 1.27mm)
pins on every part: 3 VCC (power), 12 GND (power)
part A pins: 2 OUT1 (oc), 4 IN1- (in), 5 IN1+ (in)
part B pins: 1 OUT2 (oc), 6 IN2- (in), 7 IN2+ (in)
part C pins: 8 IN3- (in), 9 IN3+ (in), 14 OUT3 (oc)
part D pins: 10 IN4- (in), 11 IN4+ (in), 13 OUT4 (oc)

## LM2901VDR2G
designator U?
Single Supply Quad Comparators, -40 to 125 degC, 14-Pin SOIC, Pb-Free, Tape and Reel; Manufacturer: On Semiconductor; PartNumber: LM2901VDR2G; IO Typ (mA): 16; DatasheetVersion: Rev. 20; PackageVersion: Rev. K, 05/2011; PackageReference: SOIC-14-751A-03; PackageDescription: 14-Pin Small Outline Integrated Circuit, Body 8.65 x 3.9 mm, Pitch 1.27 mm; Supplier 1: Digi-Key; Supplier Part Number 1: LM2901VDR2GOSTR-ND; Supplier 2: Digi-Key; Supplier Part Number 2: LM2901VDR2GOSCT-ND; Supplier 3: Digi-Key; Supplier Part Number 3: LM2901VDR2GOSDKR-ND; Supplier 4: Mouser; Supplier Part Number 4: 863-LM2901VDR2G; Packing: Tape and Reel; RoHS: TRUE; Mounting Technology: Surface Mount; ComponentLink1Description: Manufacturer URL; ComponentLink1URL: http://www.onsemi.com/; ComponentLink2Description: Datasheet; ComponentLink2URL: http://www.onsemi.com/pub_link/Collateral/LM339-D.PDF; ComponentLink3Description: Package Specification; ComponentLink3URL: http://www.onsemi.com/pub_link/Collateral/751A-03.PDF
footprint ONSC-SOIC-14-751A-03_V (SOIC, 14-Leads, Body 8.75x4mm, Pitch 1.27mm)
pins on every part: 3 VCC (power), 12 GND (power)
part A pins: 2 OUT1 (oc), 4 IN1- (in), 5 IN1+ (in)
part B pins: 1 OUT2 (oc), 6 IN2- (in), 7 IN2+ (in)
part C pins: 8 IN3- (in), 9 IN3+ (in), 14 OUT3 (oc)
part D pins: 10 IN4- (in), 11 IN4+ (in), 13 OUT4 (oc)

## LM2901VDTBR2G
designator U?
Single Supply Quad Comparators, -40 to 125 degC, 14-Pin TSSOP, Pb-Free, Tape and Reel; Manufacturer: On Semiconductor; PartNumber: LM2901VDTBR2G; IO Typ (mA): 16; DatasheetVersion: Rev. 20; PackageVersion: Rev. B, 10/2006; PackageReference: TSSOP-14-948G-01; PackageDescription: 14-Pin Small Outline Package, Body 5 x 4.4 mm, Pitch 0.65 mm; Supplier 1: Digi-Key; Supplier Part Number 1: LM2901VDTBR2GOSTR-ND; Supplier 2: Digi-Key; Supplier Part Number 2: LM2901VDTBR2GOSCT-ND; Supplier 3: Digi-Key; Supplier Part Number 3: LM2901VDTBR2GOSDKR-ND; Supplier 4: Newark; Supplier Part Number 4: 04R7813; Supplier 5: Mouser; Supplier Part Number 5: 863-LM2901VDTBR2G; Packing: Tape and Reel; RoHS: TRUE; Mounting Technology: Surface Mount; ComponentLink1Description: Manufacturer URL; ComponentLink1URL: http://www.onsemi.com/; ComponentLink2Description: Datasheet; ComponentLink2URL: http://www.onsemi.com/pub_link/Collateral/LM339-D.PDF; ComponentLink3Description: Package Specification; ComponentLink3URL: http://www.onsemi.com/pub_link/Collateral/948G-01.PDF
footprint ONSC-TSSOP-14-948G-01_V (SOP, 14-Leads, Body 5.1x4.5mm, Pitch 0.65mm)
pins on every part: 3 VCC (power), 12 GND (power)
part A pins: 2 OUT1 (oc), 4 IN1- (in), 5 IN1+ (in)
part B pins: 1 OUT2 (oc), 6 IN2- (in), 7 IN2+ (in)
part C pins: 8 IN3- (in), 9 IN3+ (in), 14 OUT3 (oc)
part D pins: 10 IN4- (in), 11 IN4+ (in), 13 OUT4 (oc)

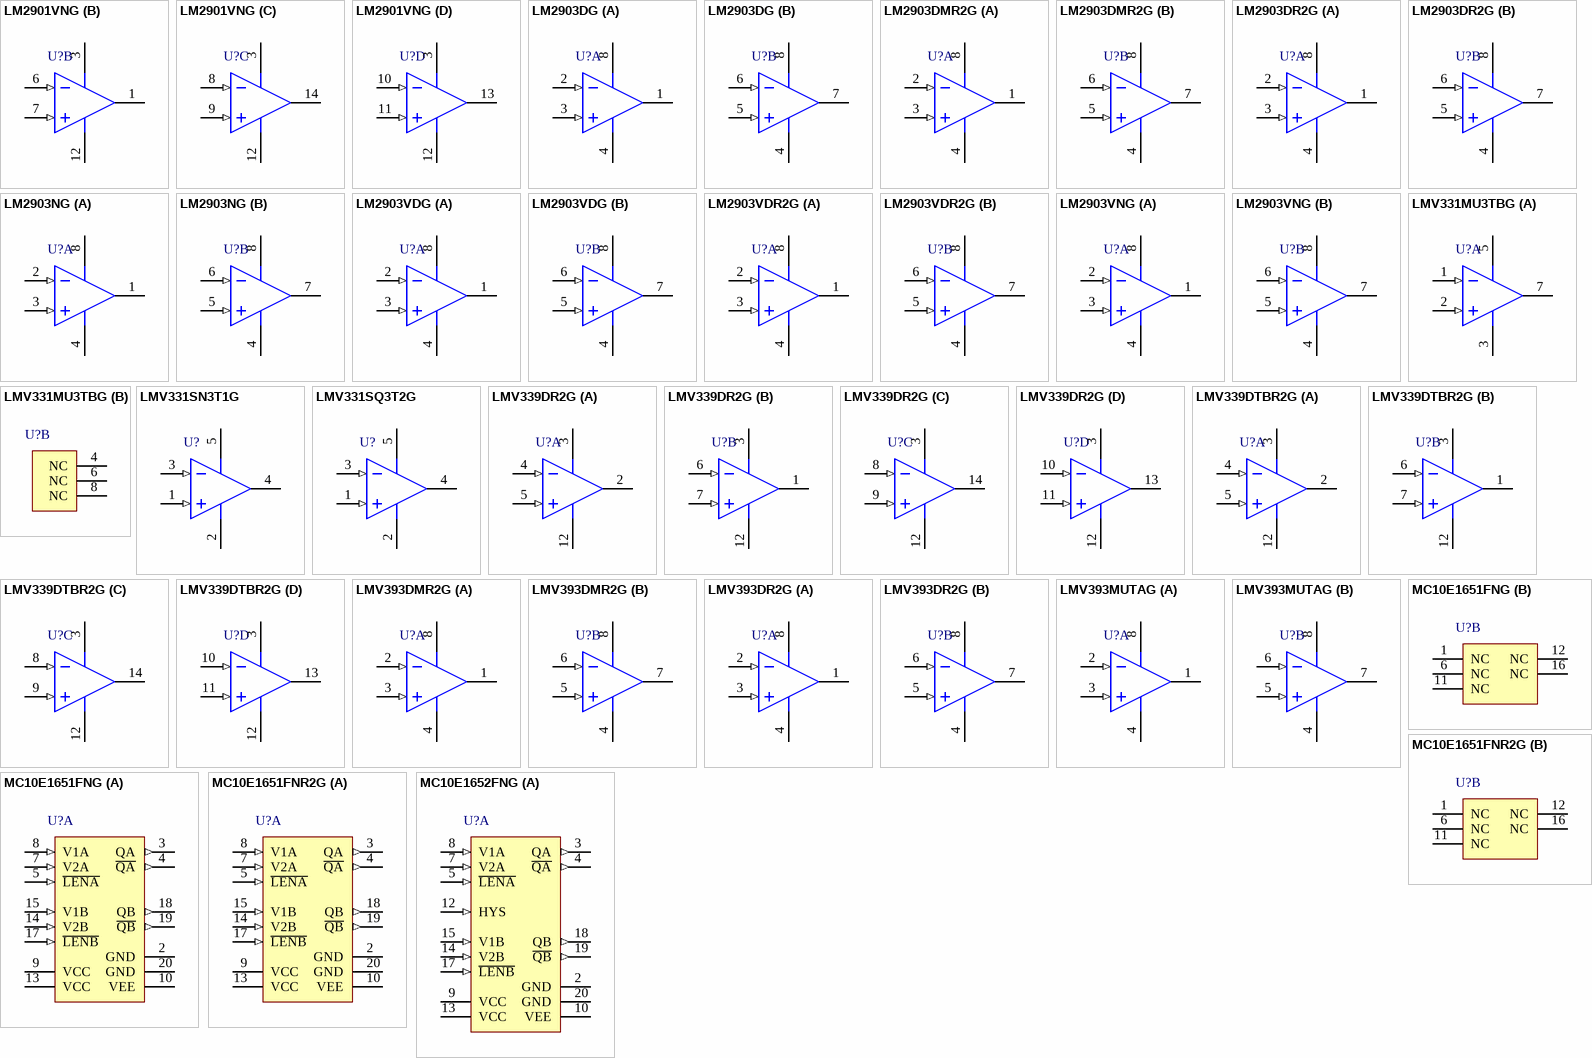
[diagram p2: symbols LM2901VNG to MC10E1652FNG]

## LM2901VNG
designator U?
Single Supply Quad Comparators, -40 to 125 degC, 14-Pin PDIP, Pb-Free, Tube; Manufacturer: On Semiconductor; PartNumber: LM2901VNG; IO Typ (mA): 16; DatasheetVersion: Rev. 20; PackageVersion: Rev. R, 06/2013; PackageReference: PDIP-14-646-06; PackageDescription: 14-Pin Plastic Dual-In Line Package, Body 19.18 x 6.605 mm, Pitch 2.54 mm; Supplier 1: Digi-Key; Supplier Part Number 1: LM2901VNGOS-ND; Supplier 2: Mouser; Supplier Part Number 2: 863-LM2901VNG; Packing: Tube; RoHS: TRUE; Mounting Technology: Through Hole; ComponentLink1Description: Manufacturer URL; ComponentLink1URL: http://www.onsemi.com/; ComponentLink2Description: Datasheet; ComponentLink2URL: http://www.onsemi.com/pub_link/Collateral/LM339-D.PDF; ComponentLink3Description: Package Specification; ComponentLink3URL: http://www.onsemi.com/pub_link/Collateral/646-06.PDF
footprint ONSC-PDIP-14-646-06 (DIP, 14-Leads, Body 19.7x7.1mm, Pitch 2.54mm)
pins on every part: 3 VCC (power), 12 GND (power)
part A pins: 2 OUT1 (oc), 4 IN1- (in), 5 IN1+ (in)
part B pins: 1 OUT2 (oc), 6 IN2- (in), 7 IN2+ (in)
part C pins: 8 IN3- (in), 9 IN3+ (in), 14 OUT3 (oc)
part D pins: 10 IN4- (in), 11 IN4+ (in), 13 OUT4 (oc)

## LM2903DG
designator U?
Low Offset Voltage Dual Comparators, 2 to 36 V, -40 to 105 degC, 8-Pin SOIC, Pb-Free, Tube; Manufacturer: On Semiconductor; PartNumber: LM2903DG; ICC Typ (mA): 0.4; IO Typ (mA): 16; VCC Max (V): 36; VCC Min (V): 2; DatasheetVersion: Rev. 25; PackageVersion: Rev. AK, 02/2011; PackageReference: SOIC-8-751-07; PackageDescription: 8-Pin Small Outline Integrated Circuit, Body 4.9 x 3.9 mm, Pitch 1.27 mm; Supplier 1: Digi-Key; Supplier Part Number 1: LM2903DGOS-ND; Supplier 2: Farnell; Supplier Part Number 2: 1211096; Supplier 3: Farnell; Supplier Part Number 3: 1130601; Supplier 4: Newark; Supplier Part Number 4: 71J4997; Supplier 5: Mouser; Supplier Part Number 5: 863-LM2903DG; Packing: Tube; RoHS: TRUE; Mounting Technology: Surface Mount; ComponentLink1Description: Manufacturer URL; ComponentLink1URL: http://www.onsemi.com/; ComponentLink2Description: Datasheet; ComponentLink2URL: http://www.onsemi.com/pub_link/Collateral/LM393-D.PDF; ComponentLink3Description: Package Specification; ComponentLink3URL: http://www.onsemi.com/pub_link/Collateral/751-07.PDF
footprint ONSC-SOIC-8-751-07_V (SOIC, 8-Leads, Body 4.9x3.9mm, Pitch 1.27mm)
pins on every part: 4 GND (power), 8 VCC (power)
part A pins: 1 OUTA (oc), 2 INA- (in), 3 INA+ (in)
part B pins: 5 INB+ (in), 6 INB- (in), 7 OUTB (oc)

## LM2903DMR2G
designator U?
Low Offset Voltage Dual Comparators, 2 to 36 V, -40 to 105 degC, 8-Pin MICRO, Pb-Free, Tape and Reel; Manufacturer: On Semiconductor; PartNumber: LM2903DMR2G; ICC Typ (mA): 0.4; IO Typ (mA): 16; VCC Max (V): 36; VCC Min (V): 2; DatasheetVersion: Rev. 25; PackageVersion: Rev. H; PackageReference: MICRO-8-846A-02_H; PackageDescription: 8-Pin Small Outline Package, Body 3 x 3 mm, Pitch 0.65 mm; Supplier 1: Digi-Key; Supplier Part Number 1: LM2903DMR2GOSTR-ND; Supplier 2: Digi-Key; Supplier Part Number 2: LM2903DMR2GOSCT-ND; Supplier 3: Digi-Key; Supplier Part Number 3: LM2903DMR2GOSDKR-ND; Supplier 4: Newark; Supplier Part Number 4: 45J0725; Supplier 5: Newark; Supplier Part Number 5: 04R7814; Supplier 6: Mouser; Supplier Part Number 6: 863-LM2903DMR2G; Packing: Tape and Reel; RoHS: TRUE; Mounting Technology: Surface Mount; ComponentLink1Description: Manufacturer URL; ComponentLink1URL: http://www.onsemi.com/; ComponentLink2Description: Datasheet; ComponentLink2URL: http://www.onsemi.com/pub_link/Collateral/LM393-D.PDF; ComponentLink3Description: Package Specification; ComponentLink3URL: http://www.onsemi.com/pub_link/Collateral/NLSV2T244-D.PDF
footprint ONSC-MICRO-8-846A-02_H_V (SOIC, 8-Leads, Body 3.1x3.1mm, Pitch 0.65mm)
pins on every part: 4 GND (power), 8 VCC (power)
part A pins: 1 OUTA (oc), 2 INA- (in), 3 INA+ (in)
part B pins: 5 INB+ (in), 6 INB- (in), 7 OUTB (oc)

## LM2903DR2G
designator U?
Low Offset Voltage Dual Comparators, 2 to 36 V, -40 to 105 degC, 8-Pin SOIC, Pb-Free, Tape and Reel; Manufacturer: On Semiconductor; PartNumber: LM2903DR2G; ICC Typ (mA): 0.4; IO Typ (mA): 16; VCC Max (V): 36; VCC Min (V): 2; DatasheetVersion: Rev. 25; PackageVersion: Rev. AK, 02/2011; PackageReference: SOIC-8-751-07; PackageDescription: 8-Pin Small Outline Integrated Circuit, Body 4.9 x 3.9 mm, Pitch 1.27 mm; Supplier 1: Digi-Key; Supplier Part Number 1: LM2903DR2GOSTR-ND; Supplier 2: Digi-Key; Supplier Part Number 2: LM2903DR2GOSCT-ND; Supplier 3: Digi-Key; Supplier Part Number 3: LM2903DR2GOSDKR-ND; Supplier 4: Farnell; Supplier Part Number 4: 2414050; Supplier 5: Farnell; Supplier Part Number 5: 1278478; Supplier 6: Newark; Supplier Part Number 6: 84K8728; Supplier 7: Newark; Supplier Part Number 7: 88H4654; Supplier 8: Mouser; Supplier Part Number 8: 863-LM2903DR2G; Packing: Tape and Reel; RoHS: TRUE; Mounting Technology: Surface Mount; ComponentLink1Description: Manufacturer URL; ComponentLink1URL: http://www.onsemi.com/; ComponentLink2Description: Datasheet; ComponentLink2URL: http://www.onsemi.com/pub_link/Collateral/LM393-D.PDF; ComponentLink3Description: Package Specification; ComponentLink3URL: http://www.onsemi.com/pub_link/Collateral/751-07.PDF
footprint ONSC-SOIC-8-751-07_V (SOIC, 8-Leads, Body 4.9x3.9mm, Pitch 1.27mm)
pins on every part: 4 GND (power), 8 VCC (power)
part A pins: 1 OUTA (oc), 2 INA- (in), 3 INA+ (in)
part B pins: 5 INB+ (in), 6 INB- (in), 7 OUTB (oc)

## LM2903NG
designator U?
Low Offset Voltage Dual Comparators, 2 to 36 V, -40 to 105 degC, 8-Pin PDIP, Pb-Free, Tube; Manufacturer: On Semiconductor; PartNumber: LM2903NG; ICC Typ (mA): 0.4; IO Typ (mA): 16; VCC Max (V): 36; VCC Min (V): 2; DatasheetVersion: Rev. 25; PackageVersion: Rev. M, 04/2010; PackageReference: PDIP-8-626-05; PackageDescription: 8-Pin Plastic Dual-In Line Package, Body 9.52 x 6.605 mm, Pitch 2.54 mm; Supplier 1: Digi-Key; Supplier Part Number 1: LM2903NGOS-ND; Supplier 2: Farnell; Supplier Part Number 2: 1211130; Supplier 3: Newark; Supplier Part Number 3: 45J0726; Supplier 4: Mouser; Supplier Part Number 4: 863-LM2903NG; Packing: Tube; RoHS: TRUE; Mounting Technology: Through Hole; ComponentLink1Description: Manufacturer URL; ComponentLink1URL: http://www.onsemi.com/; ComponentLink2Description: Datasheet; ComponentLink2URL: http://www.onsemi.com/pub_link/Collateral/LM393-D.PDF; ComponentLink3Description: Package Specification; ComponentLink3URL: http://www.onsemi.com/pub_link/Collateral/LM211-D.PDF
footprint ONSC-PDIP-8-626-05_M (DIP, 8-Leads, Body 10x7.1mm, Pitch 2.54mm)
pins on every part: 4 GND (power), 8 VCC (power)
part A pins: 1 OUTA (oc), 2 INA- (in), 3 INA+ (in)
part B pins: 5 INB+ (in), 6 INB- (in), 7 OUTB (oc)

## LM2903VDG
designator U?
Low Offset Voltage Dual Comparators, 2 to 36 V, -40 to 125 degC, 8-Pin SOIC, Pb-Free, Tube; Manufacturer: On Semiconductor; PartNumber: LM2903VDG; ICC Typ (mA): 0.4; IO Typ (mA): 16; VCC Max (V): 36; VCC Min (V): 2; DatasheetVersion: Rev. 25; PackageVersion: Rev. AK, 02/2011; PackageReference: SOIC-8-751-07; PackageDescription: 8-Pin Small Outline Integrated Circuit, Body 4.9 x 3.9 mm, Pitch 1.27 mm; Supplier 1: Digi-Key; Supplier Part Number 1: LM2903VDGOS-ND; Supplier 2: Farnell; Supplier Part Number 2: 1703247; Supplier 3: Newark; Supplier Part Number 3: 98H0564; Supplier 4: Mouser; Supplier Part Number 4: 863-LM2903VDG; Packing: Tube; RoHS: TRUE; Mounting Technology: Surface Mount; ComponentLink1Description: Manufacturer URL; ComponentLink1URL: http://www.onsemi.com/; ComponentLink2Description: Datasheet; ComponentLink2URL: http://www.onsemi.com/pub_link/Collateral/LM393-D.PDF; ComponentLink3Description: Package Specification; ComponentLink3URL: http://www.onsemi.com/pub_link/Collateral/751-07.PDF
footprint ONSC-SOIC-8-751-07_V (SOIC, 8-Leads, Body 4.9x3.9mm, Pitch 1.27mm)
pins on every part: 4 GND (power), 8 VCC (power)
part A pins: 1 OUTA (oc), 2 INA- (in), 3 INA+ (in)
part B pins: 5 INB+ (in), 6 INB- (in), 7 OUTB (oc)

## LM2903VDR2G
designator U?
Low Offset Voltage Dual Comparators, 2 to 36 V, -40 to 125 degC, 8-Pin SOIC, Pb-Free, Tape and Reel; Manufacturer: On Semiconductor; PartNumber: LM2903VDR2G; ICC Typ (mA): 0.4; IO Typ (mA): 16; VCC Max (V): 36; VCC Min (V): 2; DatasheetVersion: Rev. 25; PackageVersion: Rev. AK, 02/2011; PackageReference: SOIC-8-751-07; PackageDescription: 8-Pin Small Outline Integrated Circuit, Body 4.9 x 3.9 mm, Pitch 1.27 mm; Supplier 1: Digi-Key; Supplier Part Number 1: LM2903VDR2GOSTR-ND; Supplier 2: Digi-Key; Supplier Part Number 2: LM2903VDR2GOSCT-ND; Supplier 3: Digi-Key; Supplier Part Number 3: LM2903VDR2GOSDKR-ND; Supplier 4: Newark; Supplier Part Number 4: 04R7815; Supplier 5: Mouser; Supplier Part Number 5: 863-LM2903VDR2G; Packing: Tape and Reel; RoHS: TRUE; Mounting Technology: Surface Mount; ComponentLink1Description: Manufacturer URL; ComponentLink1URL: http://www.onsemi.com/; ComponentLink2Description: Datasheet; ComponentLink2URL: http://www.onsemi.com/pub_link/Collateral/LM393-D.PDF; ComponentLink3Description: Package Specification; ComponentLink3URL: http://www.onsemi.com/pub_link/Collateral/751-07.PDF
footprint ONSC-SOIC-8-751-07_V (SOIC, 8-Leads, Body 4.9x3.9mm, Pitch 1.27mm)
pins on every part: 4 GND (power), 8 VCC (power)
part A pins: 1 OUTA (oc), 2 INA- (in), 3 INA+ (in)
part B pins: 5 INB+ (in), 6 INB- (in), 7 OUTB (oc)

## LM2903VNG
designator U?
Low Offset Voltage Dual Comparators, 2 to 36 V, -40 to 125 degC, 8-Pin PDIP, Pb-Free, Tube; Manufacturer: On Semiconductor; PartNumber: LM2903VNG; ICC Typ (mA): 0.4; IO Typ (mA): 16; VCC Max (V): 36; VCC Min (V): 2; DatasheetVersion: Rev. 25; PackageVersion: Rev. M, 04/2010; PackageReference: PDIP-8-626-05; PackageDescription: 8-Pin Plastic Dual-In Line Package, Body 9.52 x 6.605 mm, Pitch 2.54 mm; Supplier 1: Digi-Key; Supplier Part Number 1: LM2903VNGOS-ND; Supplier 2: Newark; Supplier Part Number 2: 26K3613; Supplier 3: Mouser; Supplier Part Number 3: 863-LM2903VNG; Packing: Tube; RoHS: TRUE; Mounting Technology: Through Hole; ComponentLink1Description: Manufacturer URL; ComponentLink1URL: http://www.onsemi.com/; ComponentLink2Description: Datasheet; ComponentLink2URL: http://www.onsemi.com/pub_link/Collateral/LM393-D.PDF; ComponentLink3Description: Package Specification; ComponentLink3URL: http://www.onsemi.com/pub_link/Collateral/LM211-D.PDF
footprint ONSC-PDIP-8-626-05_M (DIP, 8-Leads, Body 10x7.1mm, Pitch 2.54mm)
pins on every part: 4 GND (power), 8 VCC (power)
part A pins: 1 OUTA (oc), 2 INA- (in), 3 INA+ (in)
part B pins: 5 INB+ (in), 6 INB- (in), 7 OUTB (oc)

## LMV331MU3TBG
designator U?
Single General Purpose, Low Voltage Comparator, 2.7 to 5 V, -40 to 85 degC, 8-Pin ULLGA, Pb-Free, Tape and Reel; Manufacturer: On Semiconductor; PartNumber: LMV331MU3TBG; ICC Typ (mA): 0.06; IO Typ (mA): 84; VCC Max (V): 5; VCC Min (V): 2.7; DatasheetVersion: Rev. 6; PackageVersion: Rev. A, 04/2011; PackageReference: ULLGA-8-613AG-01; PackageDescription: 8-Pin Land Grid Array, Body 1.5 x 1.5 mm, Pitch 0.5 mm; Supplier 1: Mouser; Supplier Part Number 1: N/A; Packing: Tape and Reel; RoHS: TRUE; Mounting Technology: Surface Mount; ComponentLink1Description: Manufacturer URL; ComponentLink1URL: http://www.onsemi.com/; ComponentLink2Description: Datasheet; ComponentLink2URL: http://www.onsemi.com/pub_link/Collateral/LMV331-D.PDF; ComponentLink3Description: Package Specification; ComponentLink3URL: http://www.onsemi.cn/pub_link/Collateral/613AG.PDF
footprint ONSC-ULLGA-8-613AG-01_V (ULLGA, 8-Leads, Body 1.5x1.5mm, Pitch 0.5mm)
part A pins: 1 IN- (in), 2 IN+ (in), 3 VCC-/GND (power), 5 VCC+ (power), 7 OUT (oc)
part B pins: 4 NC, 6 NC, 8 NC

## LMV331SN3T1G
designator U?
Single General Purpose, Low Voltage Comparator, 2.7 to 5 V, -40 to 85 degC, 5-Pin TSOP, Pb-Free, Tape and Reel; Manufacturer: On Semiconductor; PartNumber: LMV331SN3T1G; ICC Typ (mA): 0.06; IO Typ (mA): 84; VCC Max (V): 5; VCC Min (V): 2.7; DatasheetVersion: Rev. 6; PackageVersion: Rev. K, 04/2013; PackageReference: TSOP-5-483-02; PackageDescription: 5-Pin Small Outline Package, Body 3 x 1.5 mm, Pitch 0.95 mm; Supplier 1: Digi-Key; Supplier Part Number 1: LMV331SN3T1GOSTR-ND; Supplier 2: Digi-Key; Supplier Part Number 2: LMV331SN3T1GOSCT-ND; Supplier 3: Digi-Key; Supplier Part Number 3: LMV331SN3T1GOSDKR-ND; Supplier 4: Newark; Supplier Part Number 4: 15R4264; Supplier 5: Mouser; Supplier Part Number 5: 863-LMV331SN3T1G; Packing: Tape and Reel; RoHS: TRUE; Mounting Technology: Surface Mount; ComponentLink1Description: Manufacturer URL; ComponentLink1URL: http://www.onsemi.com/; ComponentLink2Description: Datasheet; ComponentLink2URL: http://www.onsemi.com/pub_link/Collateral/LMV331-D.PDF; ComponentLink3Description: Package Specification; ComponentLink3URL: http://www.onsemi.com/pub_link/Collateral/483.PDF
footprint ONSC-TSOP-5-483-02_V (SOP, 5-Leads, Body 3x1.5mm, Pitch 0.95mm)
pins: 1 IN+ (in), 2 GND (power), 3 IN- (in), 4 OUT (oc), 5 VCC (power)